# EAGLE library part WT5001-48L (library template)
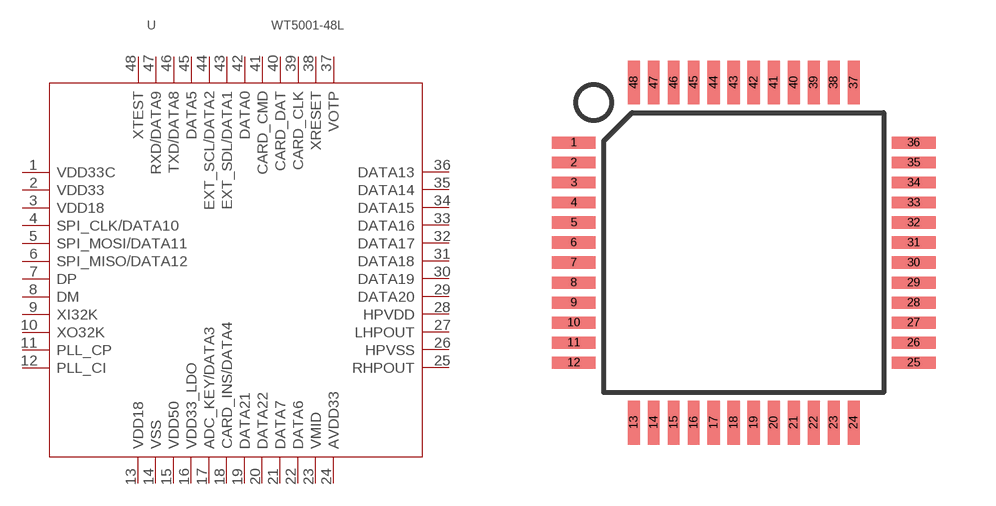
[diagram p39: symbol with the pads of TQFP48; footprint TQFP48]

Designator prefix U

## WT5001-48L  [TQFP48]
1  VDD33C
2  VDD33
3  VDD18
4  SPI_CLK/DATA10
5  SPI_MOSI/DATA11
6  SPI_MISO/DATA12
7  DP
8  DM
9  XI32K
10  XO32K
11  PLL_CP
12  PLL_CI
13  VDD18
14  VSS
15  VDD50
16  VDD33_LDO
17  ADC_KEY/DATA3
18  CARD_INS/DATA4
19  DATA21
20  DATA22
21  DATA7
22  DATA6
23  VMID
24  AVDD33
25  RHPOUT
26  HPVSS
27  LHPOUT
28  HPVDD
29  DATA20
30  DATA19
31  DATA18
32  DATA17
33  DATA16
34  DATA15
35  DATA14
36  DATA13
37  VOTP
38  XRESET
39  CARD_CLK
40  CARD_DAT
41  CARD_CMD
42  DATA0
43  EXT_SDL/DATA1
44  EXT_SCL/DATA2
45  DATA5
46  TXD/DATA8
47  RXD/DATA9
48  XTEST

## Footprint TQFP48 (pad centres in mm)
smd 1.1 x 0.3: 1 -4.25,2.75; 2 -4.25,2.25; 3 -4.25,1.75; 4 -4.25,1.25; 5 -4.25,0.75; 6 -4.25,0.25; 7 -4.25,-0.25; 8 -4.25,-0.75; 9 -4.25,-1.25; 10 -4.25,-1.75; 11 -4.25,-2.25; 12 -4.25,-2.75; 25 4.25,-2.75; 26 4.25,-2.25; 27 4.25,-1.75; 28 4.25,-1.25; 29 4.25,-0.75; 30 4.25,-0.25; 31 4.25,0.25; 32 4.25,0.75; 33 4.25,1.25; 34 4.25,1.75; 35 4.25,2.25; 36 4.25,2.75
smd 0.3 x 1.1: 13 -2.75,-4.25; 14 -2.25,-4.25; 15 -1.75,-4.25; 16 -1.25,-4.25; 17 -0.75,-4.25; 18 -0.25,-4.25; 19 0.25,-4.25; 20 0.75,-4.25; 21 1.25,-4.25; 22 1.75,-4.25; 23 2.25,-4.25; 24 2.75,-4.25; 37 2.75,4.25; 38 2.25,4.25; 39 1.75,4.25; 40 1.25,4.25; 41 0.75,4.25; 42 0.25,4.25; 43 -0.25,4.25; 44 -0.75,4.25; 45 -1.25,4.25; 46 -1.75,4.25; 47 -2.25,4.25; 48 -2.75,4.25